# EAGLE library part LSF0102 (library ds_ic_peripherals)
2 Channel Auto-Bidirectional Multi-Voltage Level Translator for Open-Drain and Push-Pull Applications
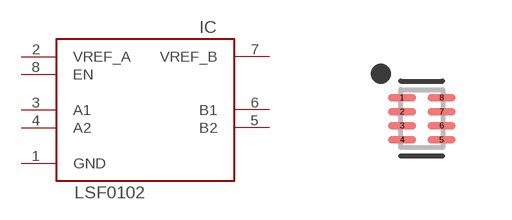
[diagram p7: symbol with the pads of SON35P100X140X40-8N; footprint SON35P100X140X40-8N]

Designator prefix IC

## LSF0102DQER  [SON35P100X140X40-8N]
1  GND  pwr
2  VREF_A  pwr
3  A1
4  A2
5  B2
6  B1
7  VREF_B  pwr
8  EN

## Footprint SON35P100X140X40-8N (pad centres in mm)
8-SON (DFN), 0.35 mm pitch, 1.40 X 1.00 X 0.40 mm body 8-pin SON (DFN) package with 0.35 mm pitch with body size 1.40 X 1.00 X 0.40 mm
smd 0.71 x 0.193: 1 -0.495,0.525; 2 -0.495,0.175; 3 -0.495,-0.175; 4 -0.495,-0.525; 5 0.495,-0.525; 6 0.495,-0.175; 7 0.495,0.175; 8 0.495,0.525